# Altium footprint library DF51K-4DP-2DSA(800).PcbLib: 1 footprints
Each footprint in its own frame and in the unit in brackets; x right, y up, seen from the top. Pads: shape width x height; smd on the part's side, far side on the other; paste and mask are expansions set on the pad; w line width, h text height; cw(c..) or ccw(c..) is an arc to the next point about the centre after c.
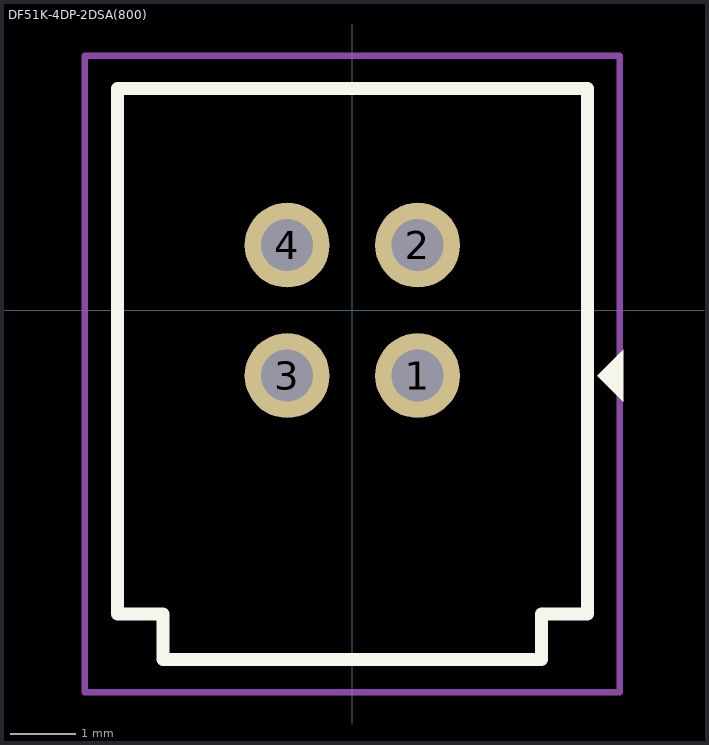
[diagram p0: the footprint, top view; thin cyan lines are the x and y axes]

## DF51K-4DP-2DSA(800) [mm]
pads (4):
  round 1.3 hole 0.8: 1(1,-1) 2(1,1) 3(-1,-1) 4(-1,1)
Top Overlay:
  region: 4.15,-1.4 4.15,-0.6 3.75,-1
  lines w0.2: -3.6,-4.65 -2.9,-4.65 -2.9,-5.35 2.9,-5.35 2.9,-4.65 3.6,-4.65 3.6,3.4 -3.6,3.4 -3.6,-4.65
Top Courtyard:
  lines w0.1: -4.1,-5.85 -4.1,3.9 4.1,3.9 4.1,-5.85 3.6,-5.85 -4.1,-5.85
3D body "DF51K-4DP-2DSA_4800547000_3D.stp": height 8.39, standoff -3.01, extent -3.6,-5.349 3.6,3.401